# EAGLE library part CONN2X10 (library edgeConn2x10)
Pads for edge connector 10/20. Pads size: 80x340mil. Spacing: 156 mil.
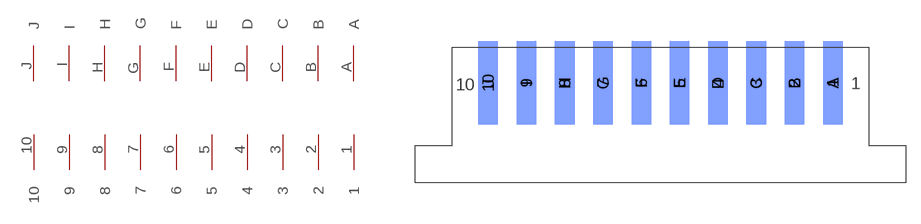
[diagram p0: symbol with the pads of CONN2X10; footprint CONN2X10]

Designator prefix -

## CONN2X10  [CONN2X10]
1  1
2  2
3  3
4  4
5  5
6  6
7  7
8  8
9  9
10  10
A  A
B  B
C  C
D  D
E  E
F  F
G  G
H  H
I  I
J  J

## Footprint CONN2X10 (pad centres in mm)
Pads for edge connector 10/20. Pads size: 80x340mil. Spacing: 156 mil.
smd 2.032 x 8.636: 1 17.831,3.962; 2 13.868,3.962; 3 9.906,3.962; 4 5.944,3.962; 5 1.981,3.962; 6 -1.981,3.962; 7 -5.944,3.962; 8 -9.906,3.962; 9 -13.868,3.962; 10 -17.831,3.962
smd 2.032 x 8.636 bottom: A 17.831,3.962; B 13.868,3.962; C 9.906,3.962; D 5.944,3.962; E 1.981,3.962; F -1.981,3.962; G -5.944,3.962; H -9.906,3.962; I -13.868,3.962; J -17.831,3.962